# Altium integrated library Analog Devices Data Converters Digital-to-Analog Converters.IntLib: 2231 symbols (part 165 of 181)
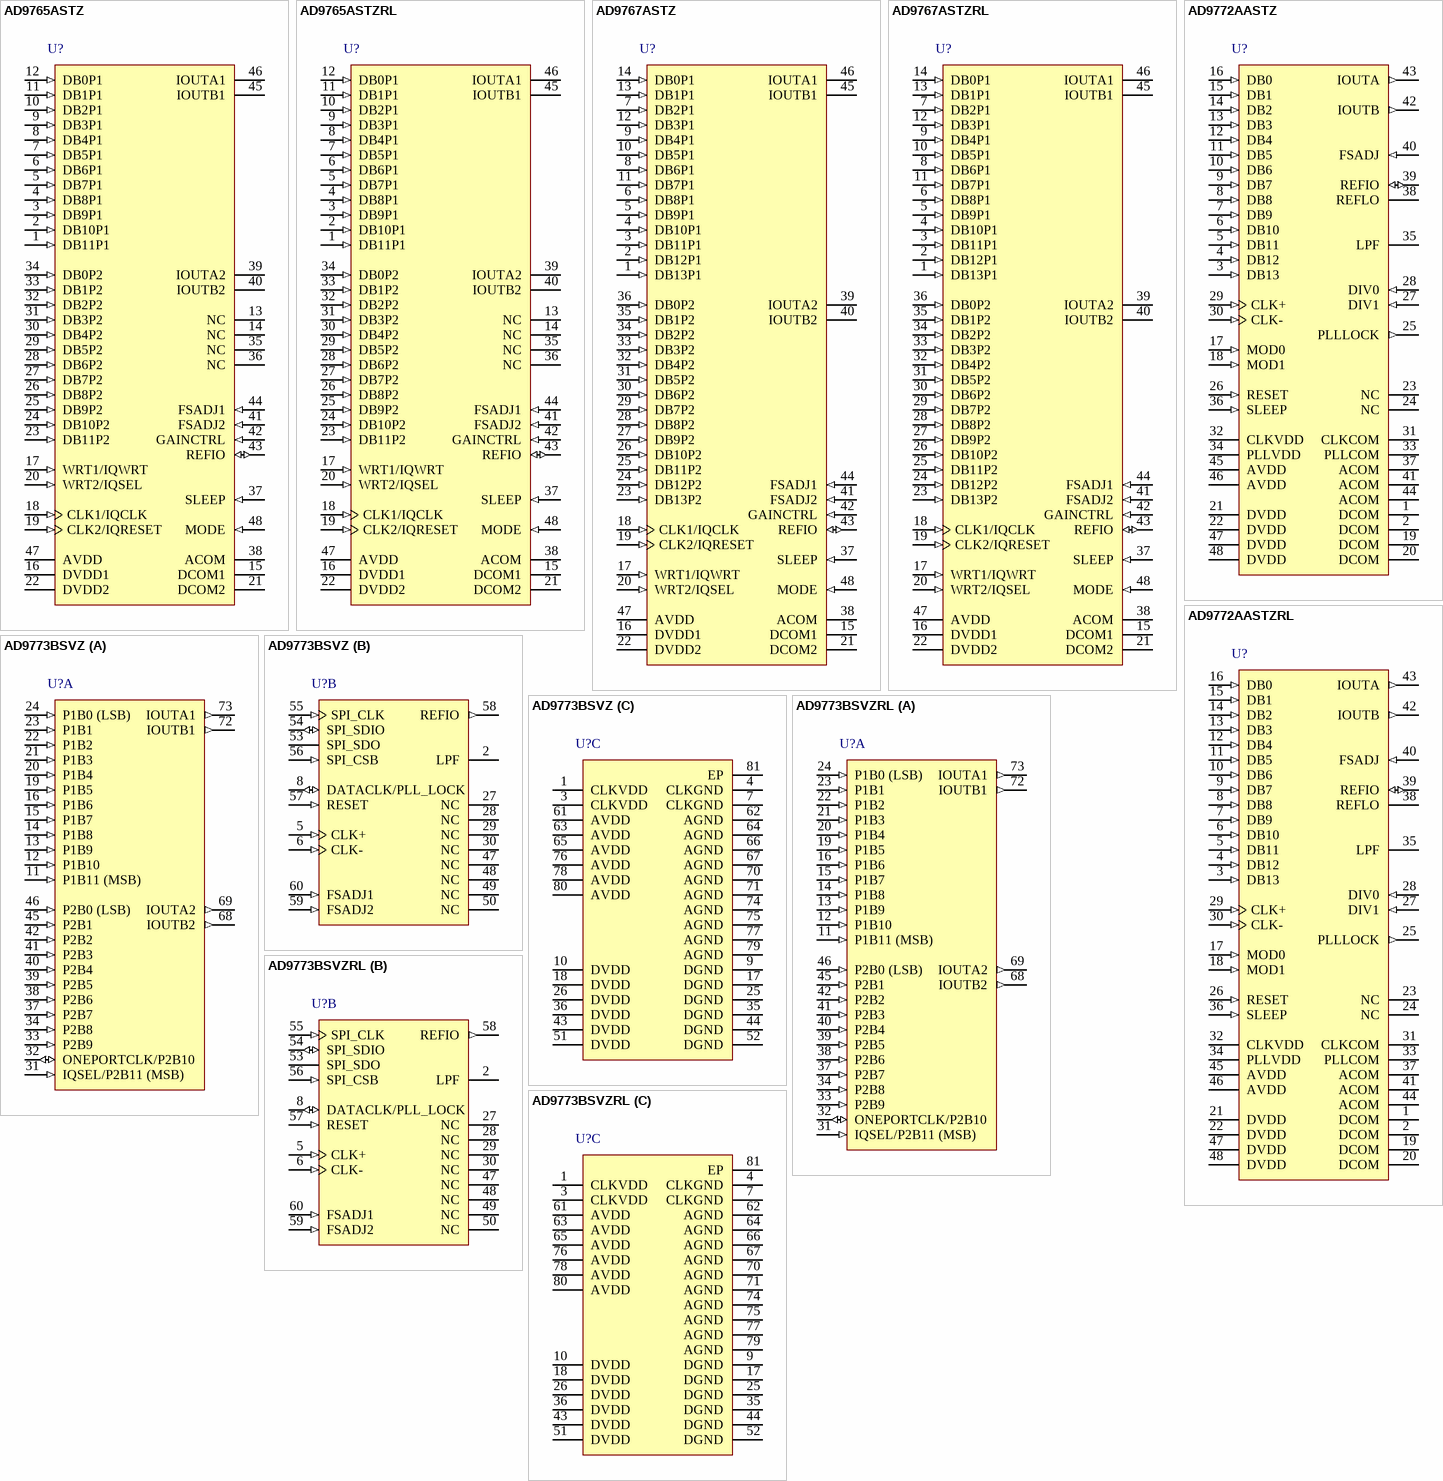
[diagram p278: symbols AD9765ASTZ to AD9773BSVZRL]

## AD9765ASTZ
designator U?
Dual 12-Bit TxDAC+, 125 Msps, -40 to +85 degC, ST-48, Pb-Free, Tray; Generic Part Number: AD9765; Manufacturer: Analog Devices; PartNumber: AD9765ASTZ; # DAC Outputs: 2; Max V+: 5.5V; Op Pwr Diss: 450mW; Resolution (Bits): 12; Settling Time: 35ns; Single Supply: Yes; DatasheetVersion: Rev.G; PackageVersion: revA; PackageReference: ST-48; PackageDescription: 48-Pin Thin Quad Flat Pack 0.5 mm Pitch; Supplier 1: Digi-Key; Supplier Part Number 1: AD9765ASTZ-ND; Supplier 2: Newark; Supplier Part Number 2: 19M8946; Supplier 3: Mouser; Supplier Part Number 3: 584-AD9765ASTZ; Packing: Tray; RoHS: Y; Mounting Technology: Surface Mount; ComponentLink1Description: Manufacturer URL; ComponentLink1URL: http://www.analog.com/en/index.html; ComponentLink2Description: Datasheet; ComponentLink2URL: http://www.analog.com/static/imported-files/data_sheets/AD9763_9765_9767.pdf; ComponentLink3Description: Package Specification; ComponentLink3URL: http://www.analog.com/static/imported-files/packages/PKG_PDF/LQFP%28ST%29/ST_48.pdf; ComponentLink4Description: Product URL; ComponentLink4URL: http://www.analog.com/en/digital-to-analog-converters/da-converters/ad9765/products/product.html
footprint ST-48_N (Thin QFP, 48-Leads, Body 7x7mm, Pitch 0.5mm, IPC Medium Density)
footprint ST-48_L (Thin QFP, 48-Leads, Body 7x7mm, Pitch 0.5mm, IPC High Density)
footprint ST-48_M (Thin QFP, 48-Leads, Body 7x7mm, Pitch 0.5mm, IPC Low Density)
pins: 1 DB11P1 (in) "Data Bit Pin (Port 1)", 2 DB10P1 (in) "Data Bit Pin (Port 1)", 3 DB9P1 (in) "Data Bit Pin (Port 1)", 4 DB8P1 (in) "Data Bit Pin (Port 1)", 5 DB7P1 (in) "Data Bit Pin (Port 1)", 6 DB6P1 (in) "Data Bit Pin (Port 1)", 7 DB5P1 (in) "Data Bit Pin (Port 1)", 8 DB4P1 (in) "Data Bit Pin (Port 1)", 9 DB3P1 (in) "Data Bit Pin (Port 1)", 10 DB2P1 (in) "Data Bit Pin (Port 1)", 11 DB1P1 (in) "Data Bit Pin (Port 1)", 12 DB0P1 (in) "Data Bit Pin (Port 1)", 13 NC "No Connect", 14 NC "No Connect", 15 DCOM1 (power) "Digital Common", 16 DVDD1 (power) "Digital Supply Voltage", 17 WRT1/IQWRT (in) "Input Write Signal for PORT 1 (IQWRT in Interleaving Mode)", 18 CLK1/IQCLK (in) "Clock Input for DAC1 (IQCLK in Interleaving Mode)", 19 CLK2/IQRESET (in) "Clock Input for DAC2 (IQRESET in Interleaving Mode)", 20 WRT2/IQSEL (in) "Input Write Signal for PORT 2 (IQSEL in Interleaving Mode)", 21 DCOM2 (power) "Digital Common", 22 DVDD2 (power) "Digital Supply Voltage", 23 DB11P2 (in) "Data Bit Pin (Port 2)", 24 DB10P2 (in) "Data Bit Pin (Port 2)", 25 DB9P2 (in) "Data Bit Pin (Port 2)", 26 DB8P2 (in) "Data Bit Pin (Port 2)", 27 DB7P2 (in) "Data Bit Pin (Port 2)", 28 DB6P2 (in) "Data Bit Pin (Port 2)", 29 DB5P2 (in) "Data Bit Pin (Port 2)", 30 DB4P2 (in) "Data Bit Pin (Port 2)", 31 DB3P2 (in) "Data Bit Pin (Port 2)", 32 DB2P2 (in) "Data Bit Pin (Port 2)", 33 DB1P2 (in) "Data Bit Pin (Port 2)", 34 DB0P2 (in) "Data Bit Pin (Port 2)", 35 NC "No Connect", 36 NC "No Connect", 37 SLEEP (in) "Power-Down Control Input", 38 ACOM (power) "Analog Common", 39 IOUTA2 "Port 2 Differential DAC Current Output", 40 IOUTB2 "Port 2 Differential DAC Current Output", 41 FSADJ2 (in) "Full-Scale Current Output Adjust for DAC2", 42 GAINCTRL (in) "Master/Slave Resistor Control Mode", 43 REFIO (io) "Reference Input/Output", 44 FSADJ1 (in) "Full-Scale Current Output Adjust for DAC1", 45 IOUTB1 "Port 1 Differential DAC Current Outputs", 46 IOUTA1 "Port 1 Differential DAC Current Outputs", 47 AVDD (power) "Analog Supply Voltage", 48 MODE (in) "Mode Select (1 = dual port, 0 = interleaved)"

## AD9765ASTZRL
designator U?
Dual 12-Bit TxDAC+, 125 Msps, -40 to +85 degC, ST-48, Pb-Free, Reel; Generic Part Number: AD9765; Manufacturer: Analog Devices; PartNumber: AD9765ASTZRL; # DAC Outputs: 2; Max V+: 5.5V; Op Pwr Diss: 450mW; Resolution (Bits): 12; Settling Time: 35ns; Single Supply: Yes; DatasheetVersion: Rev.G; PackageVersion: revA; PackageReference: ST-48; PackageDescription: 48-Pin Thin Quad Flat Pack 0.5 mm Pitch; Supplier 1: Digi-Key; Supplier Part Number 1: AD9765ASTZRL-ND; Supplier 2: Mouser; Supplier Part Number 2: 584-AD9765ASTZR; Packing: Reel; RoHS: Y; Mounting Technology: Surface Mount; ComponentLink1Description: Manufacturer URL; ComponentLink1URL: http://www.analog.com/en/index.html; ComponentLink2Description: Datasheet; ComponentLink2URL: http://www.analog.com/static/imported-files/data_sheets/AD9763_9765_9767.pdf; ComponentLink3Description: Package Specification; ComponentLink3URL: http://www.analog.com/static/imported-files/packages/PKG_PDF/LQFP%28ST%29/ST_48.pdf; ComponentLink4Description: Product URL; ComponentLink4URL: http://www.analog.com/en/digital-to-analog-converters/da-converters/ad9765/products/product.html
footprint ST-48_N (Thin QFP, 48-Leads, Body 7x7mm, Pitch 0.5mm, IPC Medium Density)
footprint ST-48_L (Thin QFP, 48-Leads, Body 7x7mm, Pitch 0.5mm, IPC High Density)
footprint ST-48_M (Thin QFP, 48-Leads, Body 7x7mm, Pitch 0.5mm, IPC Low Density)
pins: 1 DB11P1 (in) "Data Bit Pin (Port 1)", 2 DB10P1 (in) "Data Bit Pin (Port 1)", 3 DB9P1 (in) "Data Bit Pin (Port 1)", 4 DB8P1 (in) "Data Bit Pin (Port 1)", 5 DB7P1 (in) "Data Bit Pin (Port 1)", 6 DB6P1 (in) "Data Bit Pin (Port 1)", 7 DB5P1 (in) "Data Bit Pin (Port 1)", 8 DB4P1 (in) "Data Bit Pin (Port 1)", 9 DB3P1 (in) "Data Bit Pin (Port 1)", 10 DB2P1 (in) "Data Bit Pin (Port 1)", 11 DB1P1 (in) "Data Bit Pin (Port 1)", 12 DB0P1 (in) "Data Bit Pin (Port 1)", 13 NC "No Connect", 14 NC "No Connect", 15 DCOM1 (power) "Digital Common", 16 DVDD1 (power) "Digital Supply Voltage", 17 WRT1/IQWRT (in) "Input Write Signal for PORT 1 (IQWRT in Interleaving Mode)", 18 CLK1/IQCLK (in) "Clock Input for DAC1 (IQCLK in Interleaving Mode)", 19 CLK2/IQRESET (in) "Clock Input for DAC2 (IQRESET in Interleaving Mode)", 20 WRT2/IQSEL (in) "Input Write Signal for PORT 2 (IQSEL in Interleaving Mode)", 21 DCOM2 (power) "Digital Common", 22 DVDD2 (power) "Digital Supply Voltage", 23 DB11P2 (in) "Data Bit Pin (Port 2)", 24 DB10P2 (in) "Data Bit Pin (Port 2)", 25 DB9P2 (in) "Data Bit Pin (Port 2)", 26 DB8P2 (in) "Data Bit Pin (Port 2)", 27 DB7P2 (in) "Data Bit Pin (Port 2)", 28 DB6P2 (in) "Data Bit Pin (Port 2)", 29 DB5P2 (in) "Data Bit Pin (Port 2)", 30 DB4P2 (in) "Data Bit Pin (Port 2)", 31 DB3P2 (in) "Data Bit Pin (Port 2)", 32 DB2P2 (in) "Data Bit Pin (Port 2)", 33 DB1P2 (in) "Data Bit Pin (Port 2)", 34 DB0P2 (in) "Data Bit Pin (Port 2)", 35 NC "No Connect", 36 NC "No Connect", 37 SLEEP (in) "Power-Down Control Input", 38 ACOM (power) "Analog Common", 39 IOUTA2 "Port 2 Differential DAC Current Output", 40 IOUTB2 "Port 2 Differential DAC Current Output", 41 FSADJ2 (in) "Full-Scale Current Output Adjust for DAC2", 42 GAINCTRL (in) "Master/Slave Resistor Control Mode", 43 REFIO (io) "Reference Input/Output", 44 FSADJ1 (in) "Full-Scale Current Output Adjust for DAC1", 45 IOUTB1 "Port 1 Differential DAC Current Outputs", 46 IOUTA1 "Port 1 Differential DAC Current Outputs", 47 AVDD (power) "Analog Supply Voltage", 48 MODE (in) "Mode Select (1 = dual port, 0 = interleaved)"

## AD9767ASTZ
designator U?
Dual 14-Bit TxDAC+, 125 Msps, -40 to +85 degC, ST-48, Pb-Free, Tray; Generic Part Number: AD9767; Manufacturer: Analog Devices; PartNumber: AD9767ASTZ; # DAC Outputs: 2; Max V+: 5.5V; Op Pwr Diss: 450mW; Resolution (Bits): 14; Settling Time: 35ns; Single Supply: Yes; DatasheetVersion: Rev.G; PackageVersion: revA; PackageReference: ST-48; PackageDescription: 48-Pin Thin Quad Flat Pack 0.5 mm Pitch; Supplier 1: Digi-Key; Supplier Part Number 1: AD9767ASTZ-ND; Supplier 2: Farnell; Supplier Part Number 2: 2305705; Supplier 3: Newark; Supplier Part Number 3: 59K7411; Supplier 4: Mouser; Supplier Part Number 4: 584-AD9767ASTZ; Packing: Tray; RoHS: Y; Mounting Technology: Surface Mount; ComponentLink1Description: Manufacturer URL; ComponentLink1URL: http://www.analog.com/en/index.html; ComponentLink2Description: Datasheet; ComponentLink2URL: http://www.analog.com/static/imported-files/data_sheets/AD9763_9765_9767.pdf; ComponentLink3Description: Package Specification; ComponentLink3URL: http://www.analog.com/static/imported-files/packages/PKG_PDF/LQFP%28ST%29/ST_48.pdf; ComponentLink4Description: Product URL; ComponentLink4URL: http://www.analog.com/en/digital-to-analog-converters/da-converters/ad9767/products/product.html
footprint ST-48_N (Thin QFP, 48-Leads, Body 7x7mm, Pitch 0.5mm, IPC Medium Density)
footprint ST-48_L (Thin QFP, 48-Leads, Body 7x7mm, Pitch 0.5mm, IPC High Density)
footprint ST-48_M (Thin QFP, 48-Leads, Body 7x7mm, Pitch 0.5mm, IPC Low Density)
pins: 1 DB13P1 (in) "Data Bit Pin (Port 1)", 2 DB12P1 (in) "Data Bit Pin (Port 1)", 3 DB11P1 (in) "Data Bit Pin (Port 1)", 4 DB10P1 (in) "Data Bit Pin (Port 1)", 5 DB9P1 (in) "Data Bit Pin (Port 1)", 6 DB8P1 (in) "Data Bit Pin (Port 1)", 7 DB2P1 (in) "Data Bit Pin (Port 1)", 8 DB6P1 (in) "Data Bit Pin (Port 1)", 9 DB4P1 (in) "Data Bit Pin (Port 1)", 10 DB5P1 (in) "Data Bit Pin (Port 1)", 11 DB7P1 (in) "Data Bit Pin (Port 1)", 12 DB3P1 (in) "Data Bit Pin (Port 1)", 13 DB1P1 (in) "Data Bit Pin (Port 1)", 14 DB0P1 (in) "Data Bit Pin (Port 1)", 15 DCOM1 (power) "Digital Common", 16 DVDD1 (power) "Digital Supply Voltage", 17 WRT1/IQWRT (in) "Input Write Signal for PORT 1 (IQWRT in Interleaving Mode)", 18 CLK1/IQCLK (in) "Clock Input for DAC1 (IQCLK in Interleaving Mode)", 19 CLK2/IQRESET (in) "Clock Input for DAC2 (IQRESET in Interleaving Mode)", 20 WRT2/IQSEL (in) "Input Write Signal for PORT 2 (IQSEL in Interleaving Mode)", 21 DCOM2 (power) "Digital Common", 22 DVDD2 (power) "Digital Supply Voltage", 23 DB13P2 (in) "Data Bit Pin (Port 2)", 24 DB12P2 (in) "Data Bit Pin (Port 2)", 25 DB11P2 (in) "Data Bit Pin (Port 2)", 26 DB10P2 (in) "Data Bit Pin (Port 2)", 27 DB9P2 (in) "Data Bit Pin (Port 2)", 28 DB8P2 (in) "Data Bit Pin (Port 2)", 29 DB7P2 (in) "Data Bit Pin (Port 2)", 30 DB6P2 (in) "Data Bit Pin (Port 2)", 31 DB5P2 (in) "Data Bit Pin (Port 2)", 32 DB4P2 (in) "Data Bit Pin (Port 2)", 33 DB3P2 (in) "Data Bit Pin (Port 2)", 34 DB2P2 (in) "Data Bit Pin (Port 2)", 35 DB1P2 (in) "Data Bit Pin (Port 2)", 36 DB0P2 (in) "Data Bit Pin (Port 2)", 37 SLEEP (in) "Power-Down Control Input", 38 ACOM (power) "Analog Common", 39 IOUTA2 "Port 2 Differential DAC Current Output", 40 IOUTB2 "Port 2 Differential DAC Current Output", 41 FSADJ2 (in) "Full-Scale Current Output Adjust for DAC2", 42 GAINCTRL (in) "Master/Slave Resistor Control Mode", 43 REFIO (io) "Reference Input/Output", 44 FSADJ1 (in) "Full-Scale Current Output Adjust for DAC1", 45 IOUTB1 "Port 1 Differential DAC Current Output", 46 IOUTA1 "Port 1 Differential DAC Current Output", 47 AVDD (power) "Analog Supply Voltage", 48 MODE (in) "Mode Select (1 = dual port, 0 = interleaved)"

## AD9767ASTZRL
designator U?
Dual 14-Bit TxDAC+, 125 Msps, -40 to +85 degC, ST-48, Pb-Free, Reel; Generic Part Number: AD9767; Manufacturer: Analog Devices; PartNumber: AD9767ASTZRL; # DAC Outputs: 2; Max V+: 5.5V; Op Pwr Diss: 450mW; Resolution (Bits): 14; Settling Time: 35ns; Single Supply: Yes; DatasheetVersion: Rev.G; PackageVersion: revA; PackageReference: ST-48; PackageDescription: 48-Pin Thin Quad Flat Pack 0.5 mm Pitch; Supplier 1: Digi-Key; Supplier Part Number 1: AD9767ASTZRL-ND; Supplier 2: Mouser; Supplier Part Number 2: 584-AD9767ASTZR; Packing: Reel; RoHS: Y; Mounting Technology: Surface Mount; ComponentLink1Description: Manufacturer URL; ComponentLink1URL: http://www.analog.com/en/index.html; ComponentLink2Description: Datasheet; ComponentLink2URL: http://www.analog.com/static/imported-files/data_sheets/AD9763_9765_9767.pdf; ComponentLink3Description: Package Specification; ComponentLink3URL: http://www.analog.com/static/imported-files/packages/PKG_PDF/LQFP%28ST%29/ST_48.pdf; ComponentLink4Description: Product URL; ComponentLink4URL: http://www.analog.com/en/digital-to-analog-converters/da-converters/ad9767/products/product.html
footprint ST-48_N (Thin QFP, 48-Leads, Body 7x7mm, Pitch 0.5mm, IPC Medium Density)
footprint ST-48_L (Thin QFP, 48-Leads, Body 7x7mm, Pitch 0.5mm, IPC High Density)
footprint ST-48_M (Thin QFP, 48-Leads, Body 7x7mm, Pitch 0.5mm, IPC Low Density)
pins: 1 DB13P1 (in) "Data Bit Pin (Port 1)", 2 DB12P1 (in) "Data Bit Pin (Port 1)", 3 DB11P1 (in) "Data Bit Pin (Port 1)", 4 DB10P1 (in) "Data Bit Pin (Port 1)", 5 DB9P1 (in) "Data Bit Pin (Port 1)", 6 DB8P1 (in) "Data Bit Pin (Port 1)", 7 DB2P1 (in) "Data Bit Pin (Port 1)", 8 DB6P1 (in) "Data Bit Pin (Port 1)", 9 DB4P1 (in) "Data Bit Pin (Port 1)", 10 DB5P1 (in) "Data Bit Pin (Port 1)", 11 DB7P1 (in) "Data Bit Pin (Port 1)", 12 DB3P1 (in) "Data Bit Pin (Port 1)", 13 DB1P1 (in) "Data Bit Pin (Port 1)", 14 DB0P1 (in) "Data Bit Pin (Port 1)", 15 DCOM1 (power) "Digital Common", 16 DVDD1 (power) "Digital Supply Voltage", 17 WRT1/IQWRT (in) "Input Write Signal for PORT 1 (IQWRT in Interleaving Mode)", 18 CLK1/IQCLK (in) "Clock Input for DAC1 (IQCLK in Interleaving Mode)", 19 CLK2/IQRESET (in) "Clock Input for DAC2 (IQRESET in Interleaving Mode)", 20 WRT2/IQSEL (in) "Input Write Signal for PORT 2 (IQSEL in Interleaving Mode)", 21 DCOM2 (power) "Digital Common", 22 DVDD2 (power) "Digital Supply Voltage", 23 DB13P2 (in) "Data Bit Pin (Port 2)", 24 DB12P2 (in) "Data Bit Pin (Port 2)", 25 DB11P2 (in) "Data Bit Pin (Port 2)", 26 DB10P2 (in) "Data Bit Pin (Port 2)", 27 DB9P2 (in) "Data Bit Pin (Port 2)", 28 DB8P2 (in) "Data Bit Pin (Port 2)", 29 DB7P2 (in) "Data Bit Pin (Port 2)", 30 DB6P2 (in) "Data Bit Pin (Port 2)", 31 DB5P2 (in) "Data Bit Pin (Port 2)", 32 DB4P2 (in) "Data Bit Pin (Port 2)", 33 DB3P2 (in) "Data Bit Pin (Port 2)", 34 DB2P2 (in) "Data Bit Pin (Port 2)", 35 DB1P2 (in) "Data Bit Pin (Port 2)", 36 DB0P2 (in) "Data Bit Pin (Port 2)", 37 SLEEP (in) "Power-Down Control Input", 38 ACOM (power) "Analog Common", 39 IOUTA2 "Port 2 Differential DAC Current Output", 40 IOUTB2 "Port 2 Differential DAC Current Output", 41 FSADJ2 (in) "Full-Scale Current Output Adjust for DAC2", 42 GAINCTRL (in) "Master/Slave Resistor Control Mode", 43 REFIO (io) "Reference Input/Output", 44 FSADJ1 (in) "Full-Scale Current Output Adjust for DAC1", 45 IOUTB1 "Port 1 Differential DAC Current Output", 46 IOUTA1 "Port 1 Differential DAC Current Output", 47 AVDD (power) "Analog Supply Voltage", 48 MODE (in) "Mode Select (1 = dual port, 0 = interleaved)"

## AD9772AASTZ
designator U?
Single 14-Bit TxDAC+ with 2x Interpolation Filter, 160 Msps, -40 to +85 degC, ST-48, Pb-Free, Tray; Generic Part Number: AD9772A; Manufacturer: Analog Devices; PartNumber: AD9772AASTZ; # DAC Outputs: 1; Max V+: 3.6V; Op Pwr Diss: 272mW; Resolution (Bits): 14; Settling Time: 11ns; Single Supply: Yes; DatasheetVersion: Rev.C; PackageVersion: revA; PackageReference: ST-48; PackageDescription: 48-Pin Thin Quad Flat Pack 0.5 mm Pitch; Supplier 1: Digi-Key; Supplier Part Number 1: AD9772AASTZ-ND; Supplier 2: Newark; Supplier Part Number 2: 59K7429; Supplier 3: Mouser; Supplier Part Number 3: 584-AD9772AASTZ; Packing: Tray; RoHS: Y; Mounting Technology: Surface Mount; ComponentLink1Description: Manufacturer URL; ComponentLink1URL: http://www.analog.com/en/index.html; ComponentLink2Description: Datasheet; ComponentLink2URL: http://www.analog.com/static/imported-files/data_sheets/AD9772A.pdf; ComponentLink3Description: Package Specification; ComponentLink3URL: http://www.analog.com/static/imported-files/packages/PKG_PDF/LQFP%28ST%29/ST_48.pdf; ComponentLink4Description: Product URL; ComponentLink4URL: http://www.analog.com/en/digital-to-analog-converters/da-converters/ad9772a/products/product.html
footprint ST-48_N (Thin QFP, 48-Leads, Body 7x7mm, Pitch 0.5mm, IPC Medium Density)
footprint ST-48_L (Thin QFP, 48-Leads, Body 7x7mm, Pitch 0.5mm, IPC High Density)
footprint ST-48_M (Thin QFP, 48-Leads, Body 7x7mm, Pitch 0.5mm, IPC Low Density)
pins: 1 DCOM (power) "Digital Common.", 2 DCOM (power) "Digital Common.", 3 DB13 (in) "Most Significant Data Bit (MSB).", 4 DB12 (in) "Data Bit 12", 5 DB11 (in) "Data Bit 11", 6 DB10 (in) "Data Bit 10", 7 DB9 (in) "Data Bit 9", 8 DB8 (in) "Data Bit 8", 9 DB7 (in) "Data Bit 7", 10 DB6 (in) "Data Bit 6", 11 DB5 (in) "Data Bit 5", 12 DB4 (in) "Data Bit 4", 13 DB3 (in) "Data Bit 3", 14 DB2 (in) "Data Bit 2", 15 DB1 (in) "Data Bit 1", 16 DB0 (in) "Least Significant Data Bit (LSB).", 17 MOD0 (in) "Digital High-Pass Filter Response. Active high. This pin invokes the digital high-pass filter response (that is, half-wave digital mixing mode). Note that quarter-wave digital mixing occurs if this pin and the MOD1 pin are (See Datasheet)", 18 MOD1 (in) "Zero-Stuffing Mode. Active high. This pin invokes zero-stuffing mode. Note that quarter-wave digital mixing occurs if this pin and the MOD0 pin are set high.", 19 DCOM (power) "Digital Common.", 20 DCOM (power) "Digital Common.", 21 DVDD (power) "Digital Supply Voltage (3.1 V to 3.5 V).", 22 DVDD (power) "Digital Supply Voltage (3.1 V to 3.5 V).", 23 NC "No Connect. Leave open.", 24 NC "No Connect. Leave open.", 25 PLLLOCK (out) "Lock Signal of the Phase-Lock Loop. This pin provides the lock signal of the phase-lock loop when the PLL clock multiplier is enabled, and provides the 1x clock output when the PLL clock multiplier is disabled. High (See Datasheet)", 26 RESET (in) "Internal Divider Reset. This pin can reset the internal driver to synchronize the internal 1x clock to the input data and/or multiple AD9772A devices. The reset is initiated if this pin is momentarily brought high when PLL (See Datasheet)", 27 DIV1 (in) "PLL Prescaler Divide Ratio. DIV1 and DIV0 set the prescaler divide ratio of the PLL (refer to Table 10).", 28 DIV0 (in) "PLL Prescaler Divide Ratio. DIV1 and DIV0 set the prescaler divide ratio of the PLL (refer to Table 10).", 29 CLK+ (in) "Noninverting Input to Differential Clock. Bias this pin to the midsupply (that is, CLKVDD/2).", 30 CLK- (in) "Inverting Input to Differential Clock. Bias this pin to the midsupply (that is, CLKVDD/2).", 31 CLKCOM (power) "Clock Input Common.", 32 CLKVDD (power) "Clock Input Supply Voltage (3.1 V to 3.5 V).", 33 PLLCOM (power) "Phase-Lock Loop Common.", 34 PLLVDD (power) "Phase-Lock Loop (PLL) Supply Voltage (3.1 V to 3.5 V). To disable the PLL clock multiplier, connect PLLVDD to PLLCOM.", 35 LPF "PLL Loop Filter Node. This pin should be left as a no connect (open) unless the DAC update rate is less than 10 MSPS, in which case a series RC should be connected from LPF to PLLVDD as indicated in Figure 61.", 36 SLEEP (in) "Power-Down Control Input. Active high. When this pin is not used, connect it to ACOM.", 37 ACOM (power) "Analog Common.", 38 REFLO "Reference Ground When Internal 1.2 V Reference Is Used. Connect this pin to AVDD to disable the internal reference.", 39 REFIO (io) "Reference Input/Output. This pin serves as the reference input when the internal reference is disabled (that is, when REFLO is tied to AVDD), or it serves as the 1.2 V reference output when the internal reference is (See Datasheet)", 40 FSADJ (in) "Full-Scale Current Output Adjust.", 41 ACOM (power) "Analog Common.", 42 IOUTB (out) "Complementary DAC Current Output. Full-scale current is selected when all data bits are 0s.", 43 IOUTA (out) "DAC Current Output. Full-scale current is selected when all data bits are 1s.", 44 ACOM (power) "Analog Common.", 45 AVDD (power) "Analog Supply Voltage (3.1 V to 3.5 V).", 46 AVDD (power) "Analog Supply Voltage (3.1 V to 3.5 V).", 47 DVDD (power) "Digital Supply Voltage (3.1 V to 3.5 V).", 48 DVDD (power) "Digital Supply Voltage (3.1 V to 3.5 V)."

## AD9772AASTZRL
designator U?
Single 14-Bit TxDAC+ with 2x Interpolation Filter, 160 Msps, -40 to +85 degC, ST-48, Pb-Free, Reel; Generic Part Number: AD9772A; Manufacturer: Analog Devices; PartNumber: AD9772AASTZRL; # DAC Outputs: 1; Max V+: 3.6V; Op Pwr Diss: 272mW; Resolution (Bits): 14; Settling Time: 11ns; Single Supply: Yes; DatasheetVersion: Rev.C; PackageVersion: revA; PackageReference: ST-48; PackageDescription: 48-Pin Thin Quad Flat Pack 0.5 mm Pitch; Supplier 1: Digi-Key; Supplier Part Number 1: AD9772AASTZRL-ND; Supplier 2: Newark; Supplier Part Number 2: 59K7430; Supplier 3: Mouser; Supplier Part Number 3: 584-AD9772AASTZR; Packing: Reel; RoHS: Y; Mounting Technology: Surface Mount; ComponentLink1Description: Manufacturer URL; ComponentLink1URL: http://www.analog.com/en/index.html; ComponentLink2Description: Datasheet; ComponentLink2URL: http://www.analog.com/static/imported-files/data_sheets/AD9772A.pdf; ComponentLink3Description: Package Specification; ComponentLink3URL: http://www.analog.com/static/imported-files/packages/PKG_PDF/LQFP%28ST%29/ST_48.pdf; ComponentLink4Description: Product URL; ComponentLink4URL: http://www.analog.com/en/digital-to-analog-converters/da-converters/ad9772a/products/product.html
footprint ST-48_N (Thin QFP, 48-Leads, Body 7x7mm, Pitch 0.5mm, IPC Medium Density)
footprint ST-48_L (Thin QFP, 48-Leads, Body 7x7mm, Pitch 0.5mm, IPC High Density)
footprint ST-48_M (Thin QFP, 48-Leads, Body 7x7mm, Pitch 0.5mm, IPC Low Density)
pins: 1 DCOM (power) "Digital Common.", 2 DCOM (power) "Digital Common.", 3 DB13 (in) "Most Significant Data Bit (MSB).", 4 DB12 (in) "Data Bit 12", 5 DB11 (in) "Data Bit 11", 6 DB10 (in) "Data Bit 10", 7 DB9 (in) "Data Bit 9", 8 DB8 (in) "Data Bit 8", 9 DB7 (in) "Data Bit 7", 10 DB6 (in) "Data Bit 6", 11 DB5 (in) "Data Bit 5", 12 DB4 (in) "Data Bit 4", 13 DB3 (in) "Data Bit 3", 14 DB2 (in) "Data Bit 2", 15 DB1 (in) "Data Bit 1", 16 DB0 (in) "Least Significant Data Bit (LSB).", 17 MOD0 (in) "Digital High-Pass Filter Response. Active high. This pin invokes the digital high-pass filter response (that is, half-wave digital mixing mode). Note that quarter-wave digital mixing occurs if this pin and the MOD1 pin are (See Datasheet)", 18 MOD1 (in) "Zero-Stuffing Mode. Active high. This pin invokes zero-stuffing mode. Note that quarter-wave digital mixing occurs if this pin and the MOD0 pin are set high.", 19 DCOM (power) "Digital Common.", 20 DCOM (power) "Digital Common.", 21 DVDD (power) "Digital Supply Voltage (3.1 V to 3.5 V).", 22 DVDD (power) "Digital Supply Voltage (3.1 V to 3.5 V).", 23 NC "No Connect. Leave open.", 24 NC "No Connect. Leave open.", 25 PLLLOCK (out) "Lock Signal of the Phase-Lock Loop. This pin provides the lock signal of the phase-lock loop when the PLL clock multiplier is enabled, and provides the 1x clock output when the PLL clock multiplier is disabled. High (See Datasheet)", 26 RESET (in) "Internal Divider Reset. This pin can reset the internal driver to synchronize the internal 1x clock to the input data and/or multiple AD9772A devices. The reset is initiated if this pin is momentarily brought high when PLL (See Datasheet)", 27 DIV1 (in) "PLL Prescaler Divide Ratio. DIV1 and DIV0 set the prescaler divide ratio of the PLL (refer to Table 10).", 28 DIV0 (in) "PLL Prescaler Divide Ratio. DIV1 and DIV0 set the prescaler divide ratio of the PLL (refer to Table 10).", 29 CLK+ (in) "Noninverting Input to Differential Clock. Bias this pin to the midsupply (that is, CLKVDD/2).", 30 CLK- (in) "Inverting Input to Differential Clock. Bias this pin to the midsupply (that is, CLKVDD/2).", 31 CLKCOM (power) "Clock Input Common.", 32 CLKVDD (power) "Clock Input Supply Voltage (3.1 V to 3.5 V).", 33 PLLCOM (power) "Phase-Lock Loop Common.", 34 PLLVDD (power) "Phase-Lock Loop (PLL) Supply Voltage (3.1 V to 3.5 V). To disable the PLL clock multiplier, connect PLLVDD to PLLCOM.", 35 LPF "PLL Loop Filter Node. This pin should be left as a no connect (open) unless the DAC update rate is less than 10 MSPS, in which case a series RC should be connected from LPF to PLLVDD as indicated in Figure 61.", 36 SLEEP (in) "Power-Down Control Input. Active high. When this pin is not used, connect it to ACOM.", 37 ACOM (power) "Analog Common.", 38 REFLO "Reference Ground When Internal 1.2 V Reference Is Used. Connect this pin to AVDD to disable the internal reference.", 39 REFIO (io) "Reference Input/Output. This pin serves as the reference input when the internal reference is disabled (that is, when REFLO is tied to AVDD), or it serves as the 1.2 V reference output when the internal reference is (See Datasheet)", 40 FSADJ (in) "Full-Scale Current Output Adjust.", 41 ACOM (power) "Analog Common.", 42 IOUTB (out) "Complementary DAC Current Output. Full-scale current is selected when all data bits are 0s.", 43 IOUTA (out) "DAC Current Output. Full-scale current is selected when all data bits are 1s.", 44 ACOM (power) "Analog Common.", 45 AVDD (power) "Analog Supply Voltage (3.1 V to 3.5 V).", 46 AVDD (power) "Analog Supply Voltage (3.1 V to 3.5 V).", 47 DVDD (power) "Digital Supply Voltage (3.1 V to 3.5 V).", 48 DVDD (power) "Digital Supply Voltage (3.1 V to 3.5 V)."

## AD9773BSVZ
designator U?
Dual 12-Bit TxDAC with 2x / 4x / 8x Interpolating Filter, 160 Msps, -40 to +85 degC, SV-80-1, Pb-Free, Tray; Generic Part Number: AD9773; Manufacturer: Analog Devices; PartNumber: AD9773BSVZ; # DAC Outputs: 2; Max V+: 3.5V; Op Pwr Diss: 410mW; Resolution (Bits): 12; Settling Time: 11ns; Single Supply: Yes; DatasheetVersion: Rev.D; PackageVersion: Oct-2005; PackageReference: SV-80-1; PackageDescription: 80-Lead Thin Quad Flat Package, Exposed Pad [TQFP_EP]; Supplier 1: Digi-Key; Supplier Part Number 1: AD9773BSVZ-ND; Supplier 2: Newark; Supplier Part Number 2: 71P7884; Supplier 3: Mouser; Supplier Part Number 3: 584-AD9773BSVZ; Packing: Tray; RoHS: Y; Mounting Technology: Surface Mount; Code_JEDEC: MS-026-ADD-HD; ComponentLink1Description: Manufacturer URL; ComponentLink1URL: http://www.analog.com/en/index.html; ComponentLink2Description: Datasheet; ComponentLink2URL: http://www.analog.com/static/imported-files/data_sheets/AD9773.pdf; ComponentLink3Description: Package Specification; ComponentLink3URL: http://www.analog.com/static/imported-files/packages/3250240192292635369SV_80_1.pdf; ComponentLink4Description: Product URL; ComponentLink4URL: http://www.analog.com/en/digital-to-analog-converters/da-converters/ad9773/products/product.html
footprint SV-80-1_N (Thin QFP, 80-Leads, Body 12x12mm, Pitch 0.5mm, Thermal Pad 6x6mm, IPC Medium Density)
footprint SV-80-1_L (Thin QFP, 80-Leads, Body 12x12mm, Pitch 0.5mm, Thermal Pad 6x6mm, IPC High Density)
footprint SV-80-1_M (Thin QFP, 80-Leads, Body 12x12mm, Pitch 0.5mm, Thermal Pad 6x6mm, IPC Low Density)
part A pins: 11 P1B11 (MSB) (in) "Port 1 Data Input.", 12 P1B10 (in) "Port 1 Data Input.", 13 P1B9 (in) "Port 1 Data Input.", 14 P1B8 (in) "Port 1 Data Input.", 15 P1B7 (in) "Port 1 Data Input.", 16 P1B6 (in) "Port 1 Data Input.", 19 P1B5 (in) "Port 1 Data Input.", 20 P1B4 (in) "Port 1 Data Input.", 21 P1B3 (in) "Port 1 Data Input.", 22 P1B2 (in) "Port 1 Data Input.", 23 P1B1 (in) "Port 1 Data Input.", 24 P1B0 (LSB) (in) "Port 1 Data Input.", 31 IQSEL/P2B11 (MSB) (in) "In one-port mode, IQSEL = 1 followed by a rising edge of the differential input clock latches the data into the I channel input register. IQSEL = 0 latches the data into the Q channel input register. In two-port mode, this (See Datasheet)", 32 ONEPORTCLK/P2B10 (io) "With the PLL disabled and the AD9773 in one-port mode, this pin becomes a clock output that runs at twice the input data rate of the I and Q channels. This allows the AD9773 to accept and demux interleaved I and Q data to (See Datasheet)", 33 P2B9 (in) "Port 2 Data Input.", 34 P2B8 (in) "Port 2 Data Input.", 37 P2B7 (in) "Port 2 Data Input.", 38 P2B6 (in) "Port 2 Data Input.", 39 P2B5 (in) "Port 2 Data Input.", 40 P2B4 (in) "Port 2 Data Input.", 41 P2B3 (in) "Port 2 Data Input.", 42 P2B2 (in) "Port 2 Data Input.", 45 P2B1 (in) "Port 2 Data Input.", 46 P2B0 (LSB) (in) "Port 2 Data Input.", 68 IOUTB2 (out) "Differential DAC Current Output, Q Channel.", 69 IOUTA2 (out) "Differential DAC Current Output, Q Channel.", 72 IOUTB1 (out) "Differential DAC Current Output, I Channel.", 73 IOUTA1 (out) "Differential DAC Current Output, I Channel."
part B pins: 2 LPF "PLL Loop Filter.", 5 CLK+ (in) "Differential Clock Input.", 6 CLK- (in) "Differential Clock Input.", 8 DATACLK/PLL_LOCK (io) "With the PLL enabled, this pin indicates the state of the PLL. A read of a Logic 1 indicates the PLL is in the locked state. Logic 0 indicates the PLL has not achieved lock. This pin can also be programmed to act as either (See Datasheet)", 27 NC "No Connect.", 28 NC "No Connect.", 29 NC "No Connect.", 30 NC "No Connect.", 47 NC "No Connect.", 48 NC "No Connect.", 49 NC "No Connect.", 50 NC "No Connect.", 53 SPI_SDO (hiz) "In the case where SDIO is an input, SDO acts as an output. When SDIO becomes an output, SDO enters a high-Z state. This pin can also be used as an output for the data rate clock. For more information, see the Two-Port Data (See Datasheet)", 54 SPI_SDIO (io) "Bidirectional Data Pin. Data direction is controlled by Bit 7 of Register Address 00h. The default setting for this bit is 0, which sets SDIO as an input.", 55 SPI_CLK (in) "Data input to the SPI port is registered on the rising edge of SPI_CLK. Data output on the SPI port is registered on the falling edge.", 56 SPI_CSB (in) "Chip Select/SPI Data Synchronization. On momentary logic high, resets SPI port logic and initializes instruction cycle.", 57 RESET (in) "Logic 1 resets all of the SPI port registers, including Address 00h, to their default values. A software reset can also be done by writing a Logic 1 to SPI Register 00h, Bit 5. However, the software reset has no effect on (See Datasheet)", 58 REFIO (out) "Reference Output, 1.2 V Nominal.", 59 FSADJ2 (in) "Full-Scale Current Adjust, Q Channel.", 60 FSADJ1 (in) "Full-Scale Current Adjust, I Channel."
part C pins: 1 CLKVDD (power) "Clock Supply Voltage.", 3 CLKVDD (power) "Clock Supply Voltage.", 4 CLKGND (power) "Clock Supply Common.", 7 CLKGND (power) "Clock Supply Common.", 9 DGND (power) "Digital Common.", 10 DVDD (power) "Digital Supply Voltage.", 17 DGND (power) "Digital Common.", 18 DVDD (power) "Digital Supply Voltage.", 25 DGND (power) "Digital Common.", 26 DVDD (power) "Digital Supply Voltage.", 35 DGND (power) "Digital Common.", 36 DVDD (power) "Digital Supply Voltage.", 43 DVDD (power) "Digital Supply Voltage.", 44 DGND (power) "Digital Common.", 51 DVDD (power) "Digital Supply Voltage.", 52 DGND (power) "Digital Common.", 61 AVDD (power) "Analog Supply Voltage.", 62 AGND (power) "Analog Common.", 63 AVDD (power) "Analog Supply Voltage.", 64 AGND (power) "Analog Common.", 65 AVDD (power) "Analog Supply Voltage.", 66 AGND (power) "Analog Common.", 67 AGND (power) "Analog Common.", 70 AGND (power) "Analog Common.", 71 AGND (power) "Analog Common.", 74 AGND (power) "Analog Common.", 75 AGND (power) "Analog Common.", 76 AVDD (power) "Analog Supply Voltage.", 77 AGND (power) "Analog Common.", 78 AVDD (power) "Analog Supply Voltage.", 79 AGND (power) "Analog Common.", 80 AVDD (power) "Analog Supply Voltage.", 81 EP "Exposed Pad."

## AD9773BSVZRL
designator U?
Dual 12-Bit TxDAC with 2x / 4x / 8x Interpolating Filter, 160 Msps, -40 to +85 degC, SV-80-1, Pb-Free, Reel; Generic Part Number: AD9773; Manufacturer: Analog Devices; PartNumber: AD9773BSVZRL; # DAC Outputs: 2; Max V+: 3.5V; Op Pwr Diss: 410mW; Resolution (Bits): 12; Settling Time: 11ns; Single Supply: Yes; DatasheetVersion: Rev.D; PackageVersion: Oct-2005; PackageReference: SV-80-1; PackageDescription: 80-Lead Thin Quad Flat Package, Exposed Pad [TQFP_EP]; Supplier 1: Digi-Key; Supplier Part Number 1: AD9773BSVZRL-ND; Supplier 2: Mouser; Supplier Part Number 2: 584-AD9773BSVZR; Packing: Reel; RoHS: Y; Mounting Technology: Surface Mount; Code_JEDEC: MS-026-ADD-HD; ComponentLink1Description: Manufacturer URL; ComponentLink1URL: http://www.analog.com/en/index.html; ComponentLink2Description: Datasheet; ComponentLink2URL: http://www.analog.com/static/imported-files/data_sheets/AD9773.pdf; ComponentLink3Description: Package Specification; ComponentLink3URL: http://www.analog.com/static/imported-files/packages/3250240192292635369SV_80_1.pdf; ComponentLink4Description: Product URL; ComponentLink4URL: http://www.analog.com/en/digital-to-analog-converters/da-converters/ad9773/products/product.html
footprint SV-80-1_N (Thin QFP, 80-Leads, Body 12x12mm, Pitch 0.5mm, Thermal Pad 6x6mm, IPC Medium Density)
footprint SV-80-1_L (Thin QFP, 80-Leads, Body 12x12mm, Pitch 0.5mm, Thermal Pad 6x6mm, IPC High Density)
footprint SV-80-1_M (Thin QFP, 80-Leads, Body 12x12mm, Pitch 0.5mm, Thermal Pad 6x6mm, IPC Low Density)
part A pins: 11 P1B11 (MSB) (in) "Port 1 Data Input.", 12 P1B10 (in) "Port 1 Data Input.", 13 P1B9 (in) "Port 1 Data Input.", 14 P1B8 (in) "Port 1 Data Input.", 15 P1B7 (in) "Port 1 Data Input.", 16 P1B6 (in) "Port 1 Data Input.", 19 P1B5 (in) "Port 1 Data Input.", 20 P1B4 (in) "Port 1 Data Input.", 21 P1B3 (in) "Port 1 Data Input.", 22 P1B2 (in) "Port 1 Data Input.", 23 P1B1 (in) "Port 1 Data Input.", 24 P1B0 (LSB) (in) "Port 1 Data Input.", 31 IQSEL/P2B11 (MSB) (in) "In one-port mode, IQSEL = 1 followed by a rising edge of the differential input clock latches the data into the I channel input register. IQSEL = 0 latches the data into the Q channel input register. In two-port mode, this (See Datasheet)", 32 ONEPORTCLK/P2B10 (io) "With the PLL disabled and the AD9773 in one-port mode, this pin becomes a clock output that runs at twice the input data rate of the I and Q channels. This allows the AD9773 to accept and demux interleaved I and Q data to (See Datasheet)", 33 P2B9 (in) "Port 2 Data Input.", 34 P2B8 (in) "Port 2 Data Input.", 37 P2B7 (in) "Port 2 Data Input.", 38 P2B6 (in) "Port 2 Data Input.", 39 P2B5 (in) "Port 2 Data Input.", 40 P2B4 (in) "Port 2 Data Input.", 41 P2B3 (in) "Port 2 Data Input.", 42 P2B2 (in) "Port 2 Data Input.", 45 P2B1 (in) "Port 2 Data Input.", 46 P2B0 (LSB) (in) "Port 2 Data Input.", 68 IOUTB2 (out) "Differential DAC Current Output, Q Channel.", 69 IOUTA2 (out) "Differential DAC Current Output, Q Channel.", 72 IOUTB1 (out) "Differential DAC Current Output, I Channel.", 73 IOUTA1 (out) "Differential DAC Current Output, I Channel."
part B pins: 2 LPF "PLL Loop Filter.", 5 CLK+ (in) "Differential Clock Input.", 6 CLK- (in) "Differential Clock Input.", 8 DATACLK/PLL_LOCK (io) "With the PLL enabled, this pin indicates the state of the PLL. A read of a Logic 1 indicates the PLL is in the locked state. Logic 0 indicates the PLL has not achieved lock. This pin can also be programmed to act as either (See Datasheet)", 27 NC "No Connect.", 28 NC "No Connect.", 29 NC "No Connect.", 30 NC "No Connect.", 47 NC "No Connect.", 48 NC "No Connect.", 49 NC "No Connect.", 50 NC "No Connect.", 53 SPI_SDO (hiz) "In the case where SDIO is an input, SDO acts as an output. When SDIO becomes an output, SDO enters a high-Z state. This pin can also be used as an output for the data rate clock. For more information, see the Two-Port Data (See Datasheet)", 54 SPI_SDIO (io) "Bidirectional Data Pin. Data direction is controlled by Bit 7 of Register Address 00h. The default setting for this bit is 0, which sets SDIO as an input.", 55 SPI_CLK (in) "Data input to the SPI port is registered on the rising edge of SPI_CLK. Data output on the SPI port is registered on the falling edge.", 56 SPI_CSB (in) "Chip Select/SPI Data Synchronization. On momentary logic high, resets SPI port logic and initializes instruction cycle.", 57 RESET (in) "Logic 1 resets all of the SPI port registers, including Address 00h, to their default values. A software reset can also be done by writing a Logic 1 to SPI Register 00h, Bit 5. However, the software reset has no effect on (See Datasheet)", 58 REFIO (out) "Reference Output, 1.2 V Nominal.", 59 FSADJ2 (in) "Full-Scale Current Adjust, Q Channel.", 60 FSADJ1 (in) "Full-Scale Current Adjust, I Channel."
part C pins: 1 CLKVDD (power) "Clock Supply Voltage.", 3 CLKVDD (power) "Clock Supply Voltage.", 4 CLKGND (power) "Clock Supply Common.", 7 CLKGND (power) "Clock Supply Common.", 9 DGND (power) "Digital Common.", 10 DVDD (power) "Digital Supply Voltage.", 17 DGND (power) "Digital Common.", 18 DVDD (power) "Digital Supply Voltage.", 25 DGND (power) "Digital Common.", 26 DVDD (power) "Digital Supply Voltage.", 35 DGND (power) "Digital Common.", 36 DVDD (power) "Digital Supply Voltage.", 43 DVDD (power) "Digital Supply Voltage.", 44 DGND (power) "Digital Common.", 51 DVDD (power) "Digital Supply Voltage.", 52 DGND (power) "Digital Common.", 61 AVDD (power) "Analog Supply Voltage.", 62 AGND (power) "Analog Common.", 63 AVDD (power) "Analog Supply Voltage.", 64 AGND (power) "Analog Common.", 65 AVDD (power) "Analog Supply Voltage.", 66 AGND (power) "Analog Common.", 67 AGND (power) "Analog Common.", 70 AGND (power) "Analog Common.", 71 AGND (power) "Analog Common.", 74 AGND (power) "Analog Common.", 75 AGND (power) "Analog Common.", 76 AVDD (power) "Analog Supply Voltage.", 77 AGND (power) "Analog Common.", 78 AVDD (power) "Analog Supply Voltage.", 79 AGND (power) "Analog Common.", 80 AVDD (power) "Analog Supply Voltage.", 81 EP "Exposed Pad."

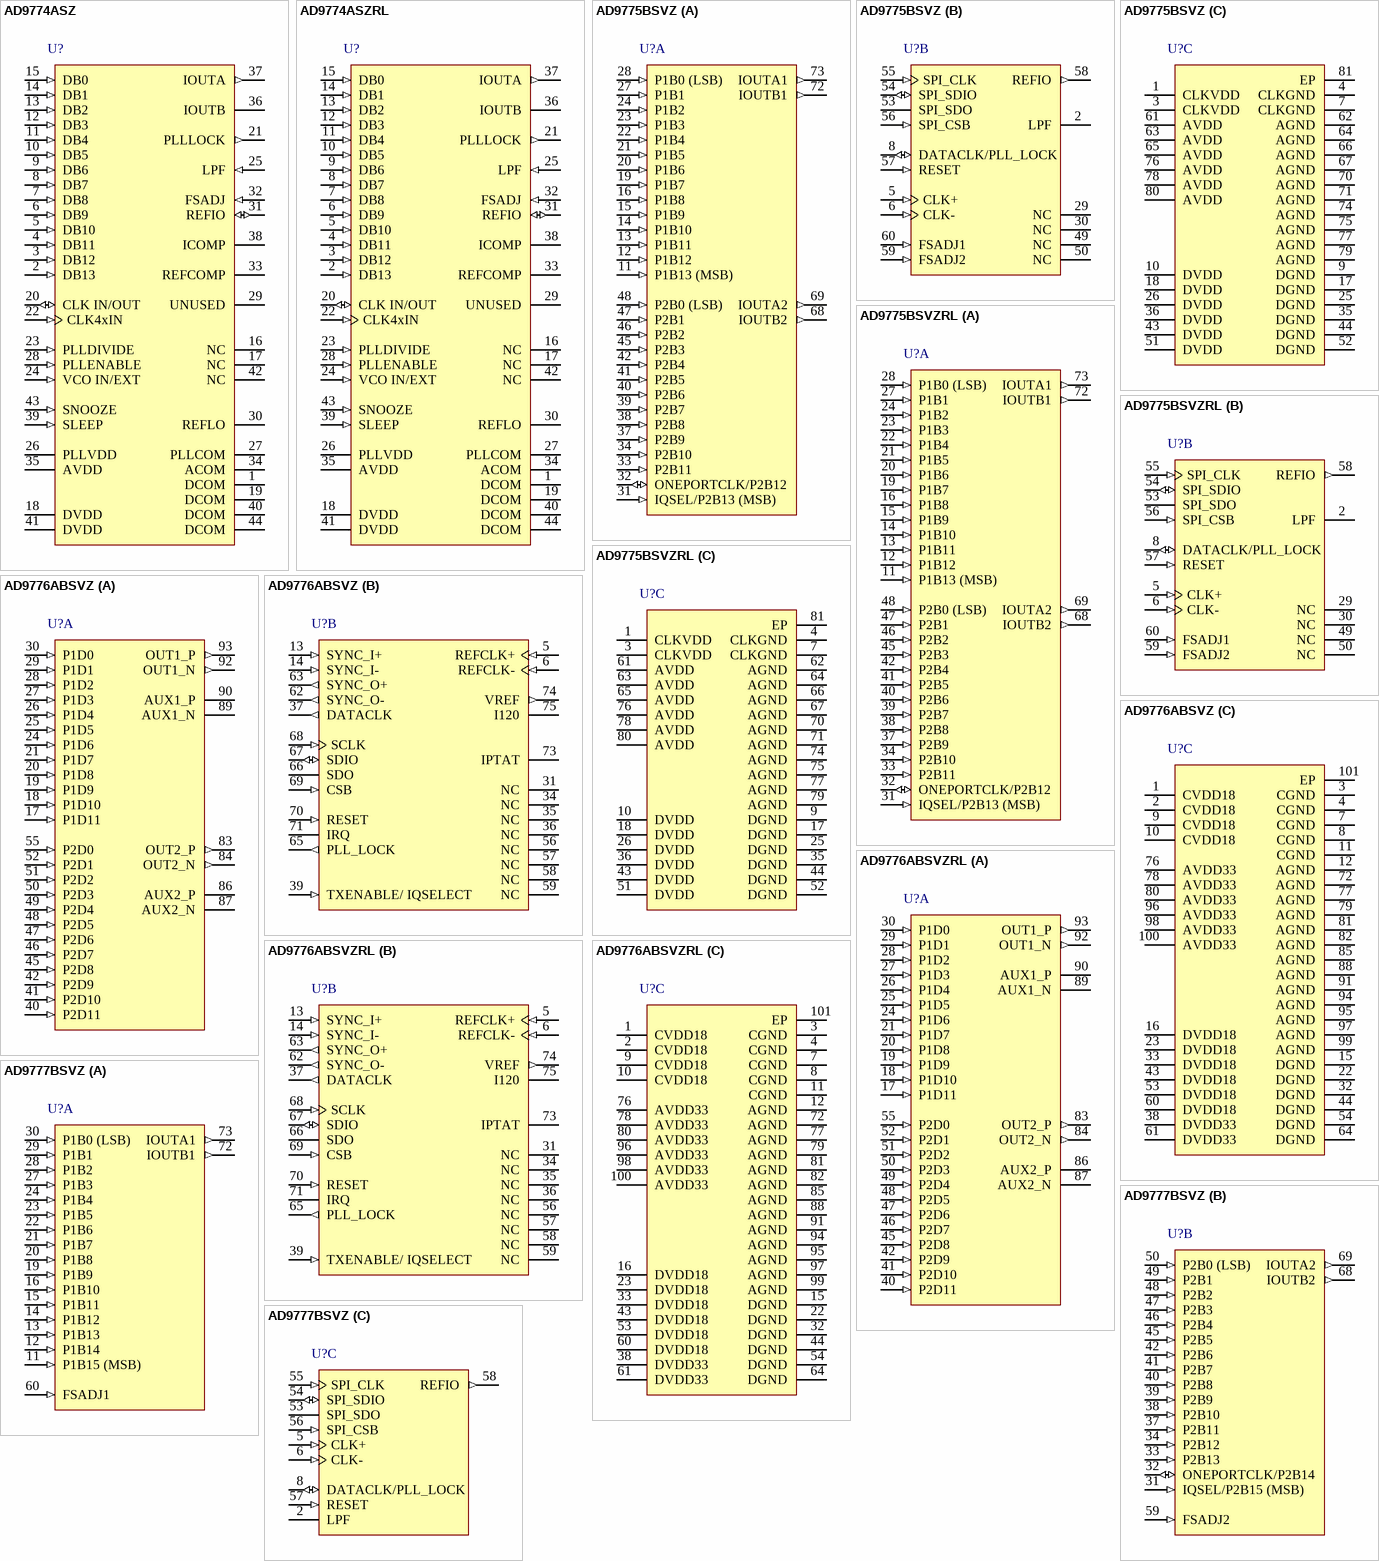
[diagram p101: symbols AD9774ASZ to AD9777BSVZ]

## AD9774ASZ
designator U?
Single 14-Bit TxDAC+, -40 to +85 degC, S-44-1, Pb-Free, Tray; Generic Part Number: AD9774; Manufacturer: Analog Devices; PartNumber: AD9774ASZ; # DAC Outputs: 1; Max V+: 5.5V; Op Pwr Diss: 940mW; Resolution (Bits): 14; Settling Time: 35ns; Single Supply: Yes; DatasheetVersion: Rev.B; PackageVersion: 041807-A; PackageReference: S-44-1; PackageDescription: 44-Lead Metric Quad Flat Package [MQFP]; Supplier 1: Digi-Key; Supplier Part Number 1: AD9774ASZ-ND; Supplier 2: Mouser; Supplier Part Number 2: N/A; Packing: Tray; RoHS: Y; Mounting Technology: Surface Mount; Code_JEDEC: MS-022-AB-1; ComponentLink1Description: Manufacturer URL; ComponentLink1URL: http://www.analog.com/en/index.html; ComponentLink2Description: Datasheet; ComponentLink2URL: http://www.analog.com/static/imported-files/data_sheets/AD9774.pdf; ComponentLink3Description: Package Specification; ComponentLink3URL: http://www.analog.com/static/imported-files/packages/217364S_44_1.pdf; ComponentLink4Description: Product URL; ComponentLink4URL: http://www.analog.com/en/digital-to-analog-converters/da-converters/ad9774/products/product.html
footprint S-44-1_N (QFP, 44-Leads, Body 10x10mm, Pitch 0.8mm, IPC Medium Density)
footprint S-44-1_L (QFP, 44-Leads, Body 10x10mm, Pitch 0.8mm, IPC High Density)
footprint S-44-1_M (QFP, 44-Leads, Body 10x10mm, Pitch 0.8mm, IPC Low Density)
pins: 1 DCOM (power) "Digital Common.", 2 DB13 (in) "Most Significant Data Bit (MSB).", 3 DB12 (in) "Data Bit12", 4 DB11 (in) "Data Bit11", 5 DB10 (in) "Data Bit10", 6 DB9 (in) "Data Bit9", 7 DB8 (in) "Data Bit8", 8 DB7 (in) "Data Bit7", 9 DB6 (in) "Data Bit6", 10 DB5 (in) "Data Bit5", 11 DB4 (in) "Data Bit4", 12 DB3 (in) "Data Bit3", 13 DB2 (in) "Data Bit2", 14 DB1 (in) "Data Bit1", 15 DB0 (in) "Least Significant Data Bit (LSB).", 16 NC "No Internal Connection.", 17 NC "No Internal Connection.", 18 DVDD (power) "Digital Supply Voltage (+2.7 V to +5.5 V).", 19 DCOM (power) "Digital Common.", 20 CLK IN/OUT (io) "Clock Input when PLL Clock Multiplier enabled. Clock Output when PLL Clock Multiplier disabled. Data latched on rising edge.", 21 PLLLOCK (out) "Phase Lock Loop Lock Signal. Active High indicates PLL is locked to input clock.", 22 CLK4xIN (in) "External 4x Clock Input when PLL is disabled. No Connect when internal PLL is active.", 23 PLLDIVIDE (in) "PLL Range Control Pin. Connect to PLLCOM if CLKIN is above 10 MSPS. Connect to PLLVDD if CLKIN is between 10 MSPS and 5.5 MSPS.", 24 VCO IN/EXT (in) "Internal Voltage Controlled Oscillator (VCO) Enable/Disable Pin. Connect to PLLVDD to enable VCO. Connect to PLLCOM to disable VCO and drive CLK4xIN with external VCO output.", 25 LPF (in) "PLL Loop Filter Node. Connect to external VCO control input if internal VCO disabled.", 26 PLLVDD (power) "Phase Lock Loop (PLL) Supply Voltage (+2.7 V to +5.5 V). Must be set to similar voltage as DVDD.", 27 PLLCOM (power) "Phase Lock Loop Common.", 28 PLLENABLE (in) "Phase Lock Loop Enable. Connect to PLLVDD to enable. Connect to PLLCOM to disable.", 29 UNUSED "Factory Test. Leave Open.", 30 REFLO "Reference Ground when Internal 1.2 V Reference Used. Connect to AVDD to disable internal reference.", 31 REFIO (io) "Reference Input/Output. Serves as reference input when internal reference disabled (i.e., tie REFLO to AVDD). Serves as 1.2 V reference output when internal reference activated (i.e., tie REFLO to ACOM). Requires 0.1 µF (See Datasheet)", 32 FSADJ (in) "Full-Scale Current Output Adjust.", 33 REFCOMP "Noise Reduction Node. Add 0.1 µF to AVDD.", 34 ACOM (power) "Analog Common.", 35 AVDD (power) "Analog Supply Voltage (+2.7 V to +5.5 V).", 36 IOUTB "Complementary DAC Current Output. Full-scale current when all data bits are 0s.", 37 IOUTA (out) "DAC Current Output. Full-scale current when all data bits are 1s.", 38 ICOMP "Internal bias node for switch driver circuitry. Decouple to ACOM with 0.1 µF capacitor.", 39 SLEEP (in) "Power-Down Control Input. Active High. Connect to DCOM if not used.", 40 DCOM (power) "Digital Common.", 41 DVDD (power) "Digital Supply Voltage (+2.7 V to +5.5 V).", 42 NC "No Internal Connection.", 43 SNOOZE (in) "SNOOZE Control Input. Deactivates 4x interpolation filter to reduce digital power consumption only. Active High. Connect to DCOM if not used.", 44 DCOM (power) "Digital Common."

## AD9774ASZRL
designator U?
Single 14-Bit TxDAC+, -40 to +85 degC, S-44-1, Pb-Free, Reel; Generic Part Number: AD9774; Manufacturer: Analog Devices; PartNumber: AD9774ASZRL; # DAC Outputs: 1; Max V+: 5.5V; Op Pwr Diss: 940mW; Resolution (Bits): 14; Settling Time: 35ns; Single Supply: Yes; DatasheetVersion: Rev.B; PackageVersion: 041807-A; PackageReference: S-44-1; PackageDescription: 44-Lead Metric Quad Flat Package [MQFP]; Supplier 1: Digi-Key; Supplier Part Number 1: AD9774ASZRL-ND; Supplier 2: Mouser; Supplier Part Number 2: N/A; Packing: Reel; RoHS: Y; Mounting Technology: Surface Mount; Code_JEDEC: MS-022-AB-1; ComponentLink1Description: Manufacturer URL; ComponentLink1URL: http://www.analog.com/en/index.html; ComponentLink2Description: Datasheet; ComponentLink2URL: http://www.analog.com/static/imported-files/data_sheets/AD9774.pdf; ComponentLink3Description: Package Specification; ComponentLink3URL: http://www.analog.com/static/imported-files/packages/217364S_44_1.pdf; ComponentLink4Description: Product URL; ComponentLink4URL: http://www.analog.com/en/digital-to-analog-converters/da-converters/ad9774/products/product.html
footprint S-44-1_N (QFP, 44-Leads, Body 10x10mm, Pitch 0.8mm, IPC Medium Density)
footprint S-44-1_L (QFP, 44-Leads, Body 10x10mm, Pitch 0.8mm, IPC High Density)
footprint S-44-1_M (QFP, 44-Leads, Body 10x10mm, Pitch 0.8mm, IPC Low Density)
pins: 1 DCOM (power) "Digital Common.", 2 DB13 (in) "Most Significant Data Bit (MSB).", 3 DB12 (in) "Data Bit12", 4 DB11 (in) "Data Bit11", 5 DB10 (in) "Data Bit10", 6 DB9 (in) "Data Bit9", 7 DB8 (in) "Data Bit8", 8 DB7 (in) "Data Bit7", 9 DB6 (in) "Data Bit6", 10 DB5 (in) "Data Bit5", 11 DB4 (in) "Data Bit4", 12 DB3 (in) "Data Bit3", 13 DB2 (in) "Data Bit2", 14 DB1 (in) "Data Bit1", 15 DB0 (in) "Least Significant Data Bit (LSB).", 16 NC "No Internal Connection.", 17 NC "No Internal Connection.", 18 DVDD (power) "Digital Supply Voltage (+2.7 V to +5.5 V).", 19 DCOM (power) "Digital Common.", 20 CLK IN/OUT (io) "Clock Input when PLL Clock Multiplier enabled. Clock Output when PLL Clock Multiplier disabled. Data latched on rising edge.", 21 PLLLOCK (out) "Phase Lock Loop Lock Signal. Active High indicates PLL is locked to input clock.", 22 CLK4xIN (in) "External 4x Clock Input when PLL is disabled. No Connect when internal PLL is active.", 23 PLLDIVIDE (in) "PLL Range Control Pin. Connect to PLLCOM if CLKIN is above 10 MSPS. Connect to PLLVDD if CLKIN is between 10 MSPS and 5.5 MSPS.", 24 VCO IN/EXT (in) "Internal Voltage Controlled Oscillator (VCO) Enable/Disable Pin. Connect to PLLVDD to enable VCO. Connect to PLLCOM to disable VCO and drive CLK4xIN with external VCO output.", 25 LPF (in) "PLL Loop Filter Node. Connect to external VCO control input if internal VCO disabled.", 26 PLLVDD (power) "Phase Lock Loop (PLL) Supply Voltage (+2.7 V to +5.5 V). Must be set to similar voltage as DVDD.", 27 PLLCOM (power) "Phase Lock Loop Common.", 28 PLLENABLE (in) "Phase Lock Loop Enable. Connect to PLLVDD to enable. Connect to PLLCOM to disable.", 29 UNUSED "Factory Test. Leave Open.", 30 REFLO "Reference Ground when Internal 1.2 V Reference Used. Connect to AVDD to disable internal reference.", 31 REFIO (io) "Reference Input/Output. Serves as reference input when internal reference disabled (i.e., tie REFLO to AVDD). Serves as 1.2 V reference output when internal reference activated (i.e., tie REFLO to ACOM). Requires 0.1 µF (See Datasheet)", 32 FSADJ (in) "Full-Scale Current Output Adjust.", 33 REFCOMP "Noise Reduction Node. Add 0.1 µF to AVDD.", 34 ACOM (power) "Analog Common.", 35 AVDD (power) "Analog Supply Voltage (+2.7 V to +5.5 V).", 36 IOUTB "Complementary DAC Current Output. Full-scale current when all data bits are 0s.", 37 IOUTA (out) "DAC Current Output. Full-scale current when all data bits are 1s.", 38 ICOMP "Internal bias node for switch driver circuitry. Decouple to ACOM with 0.1 µF capacitor.", 39 SLEEP (in) "Power-Down Control Input. Active High. Connect to DCOM if not used.", 40 DCOM (power) "Digital Common.", 41 DVDD (power) "Digital Supply Voltage (+2.7 V to +5.5 V).", 42 NC "No Internal Connection.", 43 SNOOZE (in) "SNOOZE Control Input. Deactivates 4x interpolation filter to reduce digital power consumption only. Active High. Connect to DCOM if not used.", 44 DCOM (power) "Digital Common."